# Altium footprint library DataCollection.PcbLib: 33 footprints (part 1 of 3)
Each footprint in its own frame and in the unit in brackets; x right, y up, seen from the top. Pads: shape width x height; smd on the part's side, far side on the other; paste and mask are expansions set on the pad; w line width, h text height; cw(c..) or ccw(c..) is an arc to the next point about the centre after c.
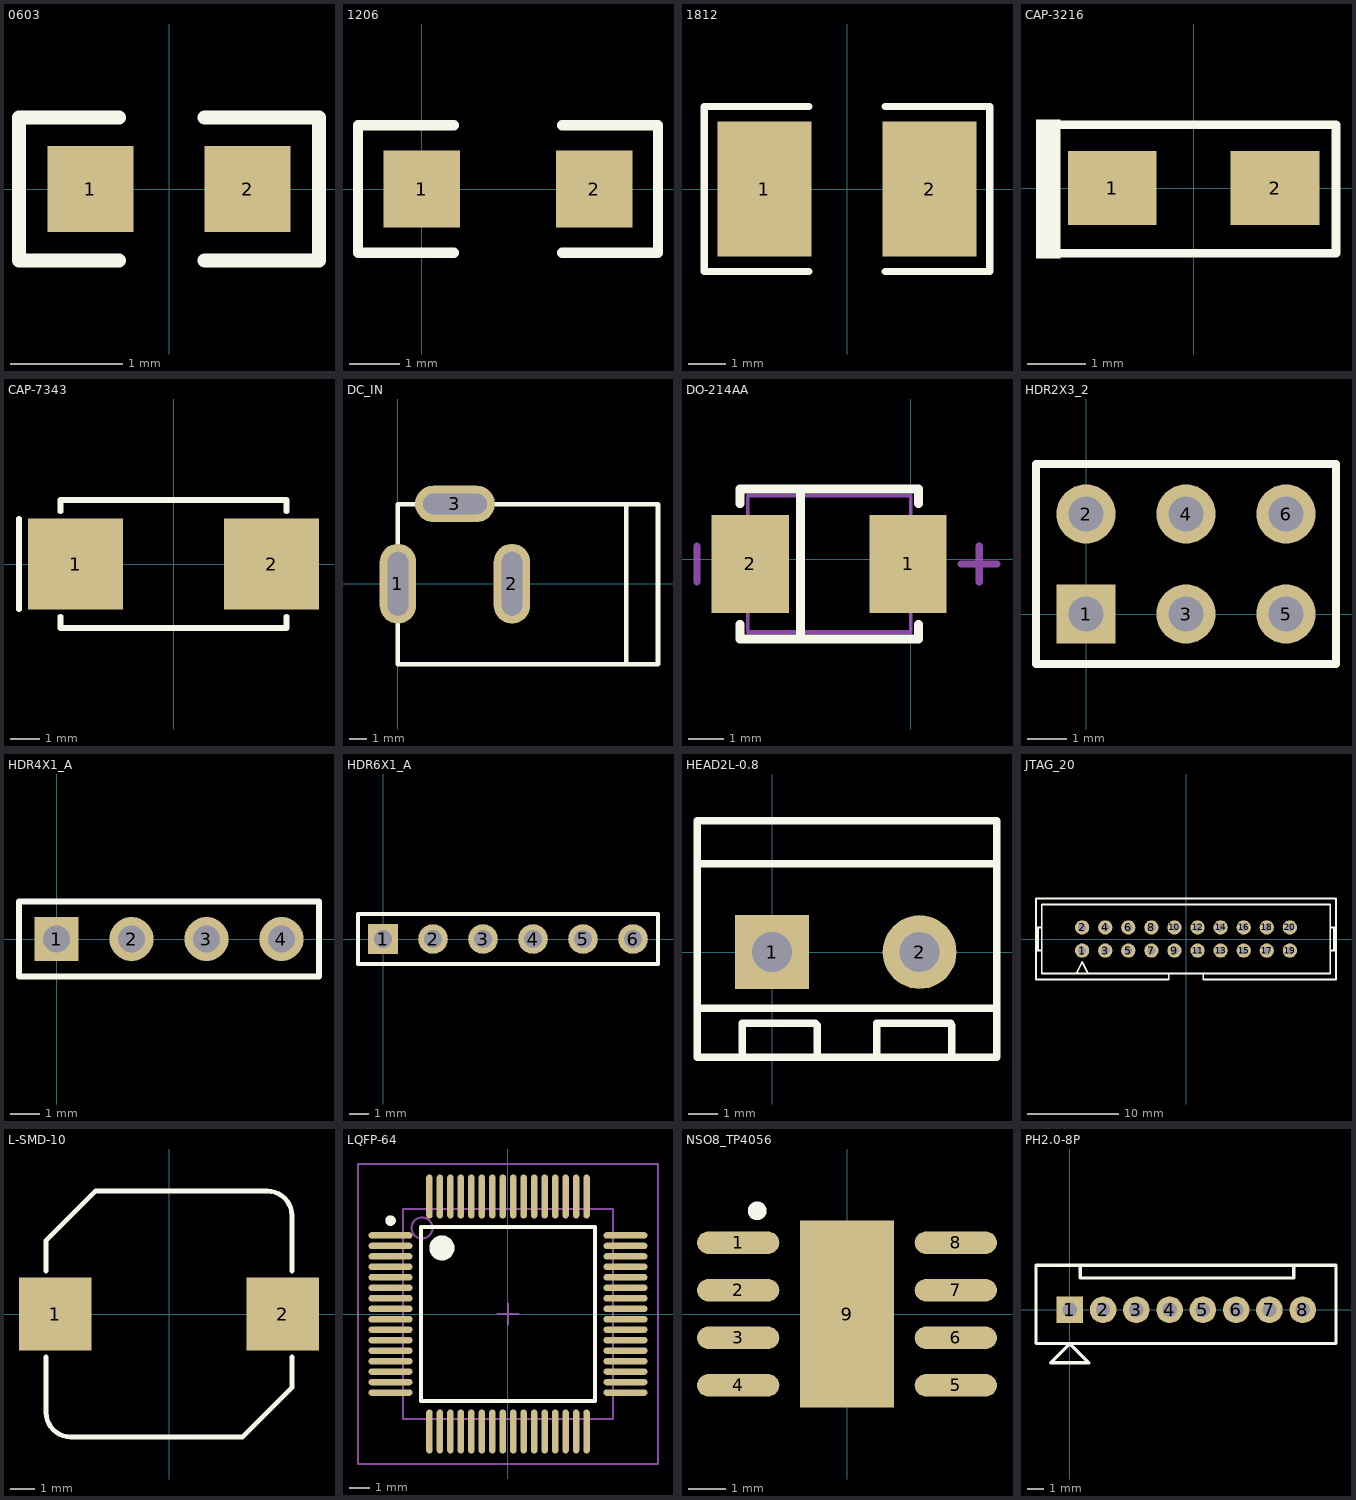
[diagram p0: the footprints below, top view; thin cyan lines are the x and y axes]

## 0603 [mil]
height 104.33
pads (2):
  rect 30x30 smd: 1(-27.5,0) 2(27.5,0)
Top Overlay:
  lines w5: -17.5,-25 -52.5,-25 -52.5,25 -17.5,25 ; 12.5,-25 52.5,-25 52.5,25 12.5,25
3D body: height 20.79, standoff 0.79, extent -32.5,-15 30.5,17

## 1206 [mil]
height 104.33
pads (2):
  rect 60x60 smd: 1(0,0) 2(135,0)
Top Overlay:
  lines w8: 25,-50 -50,-50 -50,50 25,50 ; 110,-50 185,-50 185,50 110,50

## 1812 [mm] "保险丝"
height 1
pads (2):
  rect 2.5x3.6 smd: 1(-2.2,0) 2(2.2,0)
Top Overlay:
  lines w0.2: -1.016,-2.2 -3.81,-2.2 -3.81,2.2 -1.016,2.2 ; 1.016,-2.2 3.81,-2.2 3.81,2.2 1.016,2.2
3D body: height 0.9, standoff 0, extent -2.54,0.635 -2.032,1.524
3D body: height 0.9, standoff 0, extent -2.54,-1.524 -2.032,-0.635
3D body: height 0.9, standoff 0, extent 2.159,-1.524 2.667,-0.635
3D body: height 0.9, standoff 0, extent 2.159,0.635 2.667,1.524
3D body: height 1.2, standoff 0, extent -2.286,-1.651 2.286,1.651

## CAP-3216 [mil] "钽电容"
height 78.74
pads (2):
  rect 60x50 smd: 1(-55,0) 2(55,0)
Top Overlay:
  region: -90,46.39 -106.46,46.39 -106.46,-47.61 -90,-47.61
  lines w5.91: -94.83,-43.92 96.11,-43.92 96.11,42.69 -94.83,42.69

## CAP-7343 [mm] "钽电容"
height 4
pads (2):
  rect 3.2x3.05 smd: 1(-3.302,0) 2(3.302,0)
Top Overlay:
  lines w0.2: -5.207,-1.524 -5.207,1.524 ; -3.81,-1.778 -3.81,-2.159 3.81,-2.159 3.81,-1.778 ; -3.81,1.778 -3.81,2.159 3.81,2.159 3.81,1.778
3D body: height 2.95, standoff 1.5, extent -3.429,-1.905 -2.921,1.905
3D body: height 2.9, standoff 0, extent -3.429,-1.905 3.429,1.905
3D body: height 1.3, standoff 0, extent -3.683,-1.143 -3.429,1.143
3D body: height 1.3, standoff 0, extent 3.429,-1.143 3.683,1.143

## DC_IN [mil]
height 104.33
pads (3):
  oval 80x175 hole 45 slot 140 at 90 deg: 1(0,0) 2(250,0)
  oval 175x80 hole 45 slot 140 at 0 deg: 3(125,175)
Top Overlay:
  lines w10: 500,-170 500,170 ; 0,-176 570,-176 570,174 0,174 0,-176

## DO-214AA [mil]
height 104.33
pads (2):
  rect 85x107.99 smd: 1(-2.99,-5) 2(-177.01,-5)
Top Overlay:
  lines w10: -188.43,-71.93 -188.43,-87.68 8.43,-87.68 8.43,-71.93 ; -188.43,61.93 -188.43,77.68 8.43,77.68 8.43,61.93 ; -121.5,-87.68 -121.5,77.68
Mechanical 13:
  lines w3.94: -179.96,-80 -0.04,-80 -0.04,70 -179.96,70 -179.96,-80
Mechanical 15:
  lines w8: -235.67,-24.68 -235.67,14.69 ; 55.67,-5 95.04,-5 ; 75.35,-24.68 75.35,14.69

## HDR2X3_2 [mm]
height 2.65
pads (6):
  rect 1.5x1.5 hole 0.9: 1(0,0)
  round 1.5 hole 0.9: 2(0,2.54) 3(2.54,0) 4(2.54,2.54) 5(5.08,0) 6(5.08,2.54)
Top Overlay:
  lines w0.2: 1.482,-1.27 6.35,-1.27 ; 6.35,-1.27 -1.27,-1.27 -1.27,3.81 6.35,3.81 6.35,-1.27

## HDR4X1_A [mm] "Connector; Header; 4 Position"
height 1.6
pads (4):
  rect 1.5x1.5 hole 0.9: 1(0,0)
  round 1.5 hole 0.9: 2(2.54,0) 3(5.08,0) 4(7.62,0)
Top Overlay:
  lines w0.2: -1.27,-1.27 8.89,-1.27 8.89,1.27 -1.27,1.27 -1.27,-1.27

## HDR6X1_A [mm] "Connector; Header; 4 Position"
height 1.6
pads (6):
  rect 1.5x1.5 hole 0.9: 1(0,0)
  round 1.5 hole 0.9: 2(2.54,0) 3(5.08,0) 4(7.62,0) 5(10.16,0) 6(12.7,0)
Top Overlay:
  lines w0.2: -1.27,-1.27 -1.27,1.27 13.97,1.27 13.97,-1.27 -1.27,-1.27

## HEAD2L-0.8 [mm]
height 2.65
pads (2):
  rect 2.5x2.5 hole 1.35: 1(0,0)
  round 2.5 hole 1.35: 2(5,0)
Top Overlay:
  lines w0.254: -2.54,-1.905 7.62,-1.905 ; -2.54,3 7.62,3 ; -1.016,-3.556 -1.016,-2.476 ; -1.016,-2.413 1.461,-2.413 1.524,-2.476 1.524,-3.556 ; 3.556,-3.493 3.556,-2.413 6.056,-2.413 ; 6.096,-3.556 6.096,-2.476 ; -2.54,-3.556 -2.54,4.445 7.62,4.445 7.62,-3.556 -2.54,-3.556

## JTAG_20 [mil]
height 104.33
pads (20):
  round 62 hole 35: 1(-450,-50) 2(-450,50) 3(-350,-50) 4(-350,50) 5(-250,-50) 6(-250,50) 7(-150,-50) 8(-150,50) 9(-50,-50) 10(-50,50) 11(50,-50) 12(50,50) 13(150,-50) 14(150,50) 15(250,-50) 16(250,50) 17(350,-50) 18(350,50) 19(450,-50) 20(450,50)
Top Overlay:
  lines w8: -650,-50 -625,-50 ; -650,50 -625,50 ; -641.67,-50 -641.67,50 ; -475,-150 -450,-100 -425,-150 ; -339.57,-175 -75,-175 -75,-150 ; -325,-175 -650,-175 -650,175 650,175 650,-175 325,-175 75,-175 75,-150 ; 625,-50 650,-50 ; 625,50 650,50 ; 641.67,-50 641.67,50 ; -75,-150 -625,-150 -625,150 625,150 625,-150 75,-150 ; -75,-150 75,-150

## L-SMD-10 [mm] "贴片电感10*10"
height 2.65
pads (2):
  rect 3x3 smd: 1(-4.699,0) 2(4.699,0)
Top Overlay:
  lines w0.2: -5.08,-1.778 -5.08,-4.064 ccw(c-4.064,-4.064) -4.064,-5.08 3.048,-5.08 5.08,-3.048 5.08,-1.778 ; -5.08,1.778 -5.08,3.048 -3.048,5.08 4.064,5.08 cw(c4.064,4.064) 5.08,4.064 5.08,1.778
3D body: height 4, standoff 0, extent -5.08,-5.08 5.08,5.08

## LQFP-64 [mm] "LQFP64"
height 1.5
pads (64):
  oval 2.1x0.3 smd: 1(-5.6,3.75) 2(-5.6,3.25) 3(-5.6,2.75) 4(-5.6,2.25) 5(-5.6,1.75) 6(-5.6,1.25) 7(-5.6,0.75) 8(-5.6,0.25) 9(-5.6,-0.25) 10(-5.6,-0.75) 11(-5.6,-1.25) 12(-5.6,-1.75) 13(-5.6,-2.25) 14(-5.6,-2.75) 15(-5.6,-3.25) 16(-5.6,-3.75) 33(5.6,-3.75) 34(5.6,-3.25) 35(5.6,-2.75) 36(5.6,-2.25) 37(5.6,-1.75) 38(5.6,-1.25) 39(5.6,-0.75) 40(5.6,-0.25) 41(5.6,0.25) 42(5.6,0.75) 43(5.6,1.25) 44(5.6,1.75) 45(5.6,2.25) 46(5.6,2.75) 47(5.6,3.25) 48(5.6,3.75)
  oval 0.3x2.1 smd: 17(-3.75,-5.6) 18(-3.25,-5.6) 19(-2.75,-5.6) 20(-2.25,-5.6) 21(-1.75,-5.6) 22(-1.25,-5.6) 23(-0.75,-5.6) 24(-0.25,-5.6) 25(0.25,-5.6) 26(0.75,-5.6) 27(1.25,-5.6) 28(1.75,-5.6) 29(2.25,-5.6) 30(2.75,-5.6) 31(3.25,-5.6) 32(3.75,-5.6) 49(3.75,5.6) 50(3.25,5.6) 51(2.75,5.6) 52(2.25,5.6) 53(1.75,5.6) 54(1.25,5.6) 55(0.75,5.6) 56(0.25,5.6) 57(-0.25,5.6) 58(-0.75,5.6) 59(-1.25,5.6) 60(-1.75,5.6) 61(-2.25,5.6) 62(-2.75,5.6) 63(-3.25,5.6) 64(-3.75,5.6)
Top Overlay:
  circle w0.25: c-5.6,4.45 r0.125
  circle w0.6: c-3.15,3.15 r0.3
  lines w0.2: -4.15,-4.15 -4.15,4.15 4.15,4.15 4.15,-4.15 -4.15,-4.15
Mechanical 13:
  circle w0.1: c-4.1,4.1 r0.5
  lines w0.1: -5,-5 -5,5 5,5 5,-5 -5,-5
Mechanical 15:
  lines w0.1: -0.5,0 0.5,0 ; 0,-0.5 0,0.5 ; -7.15,-7.15 -7.15,7.15 7.15,7.15 7.15,-7.15 -7.15,-7.15
3D body: height 1.6, standoff 0, extent -5,-5 5,5

## NSO8_TP4056 [mm] "SOIC-max660"
height 1.75
pads (9):
  oval 2.2x0.6 smd: 1(-2.908,1.905) 2(-2.908,0.635) 3(-2.908,-0.635) 4(-2.908,-1.905) 5(2.908,-1.905) 6(2.908,-0.635) 7(2.908,0.635) 8(2.908,1.905)
  rect 2.5x5 smd: 9(0,0)
Top Overlay:
  circle w0.25: c-2.4,2.755 r0.125

## PH2.0-8P [mm]
height 10
pads (8):
  rect 1.6x1.6 hole 0.86: 1(0,0)
  round 1.6 hole 0.86: 2(2,0) 3(4,0) 4(6,0) 5(8,0) 6(10,0) 7(12,0) 8(14,0)
Top Overlay:
  lines w0.2: 0.635,2.667 0.635,1.905 13.462,1.905 13.462,2.667 ; -2.032,-2.032 16.002,-2.032 16.002,2.667 -2.032,2.667 -2.032,-2.032 ; -1.143,-3.175 1.143,-3.175 0,-2.032 -1.143,-3.175